# Altium footprint library LED_FOOTPRINTS.PcbLib: 38 footprints (part 1 of 3)
Each footprint in its own frame and in the unit in brackets; x right, y up, seen from the top. Pads: shape width x height; smd on the part's side, far side on the other; paste and mask are expansions set on the pad; w line width, h text height; cw(c..) or ccw(c..) is an arc to the next point about the centre after c.
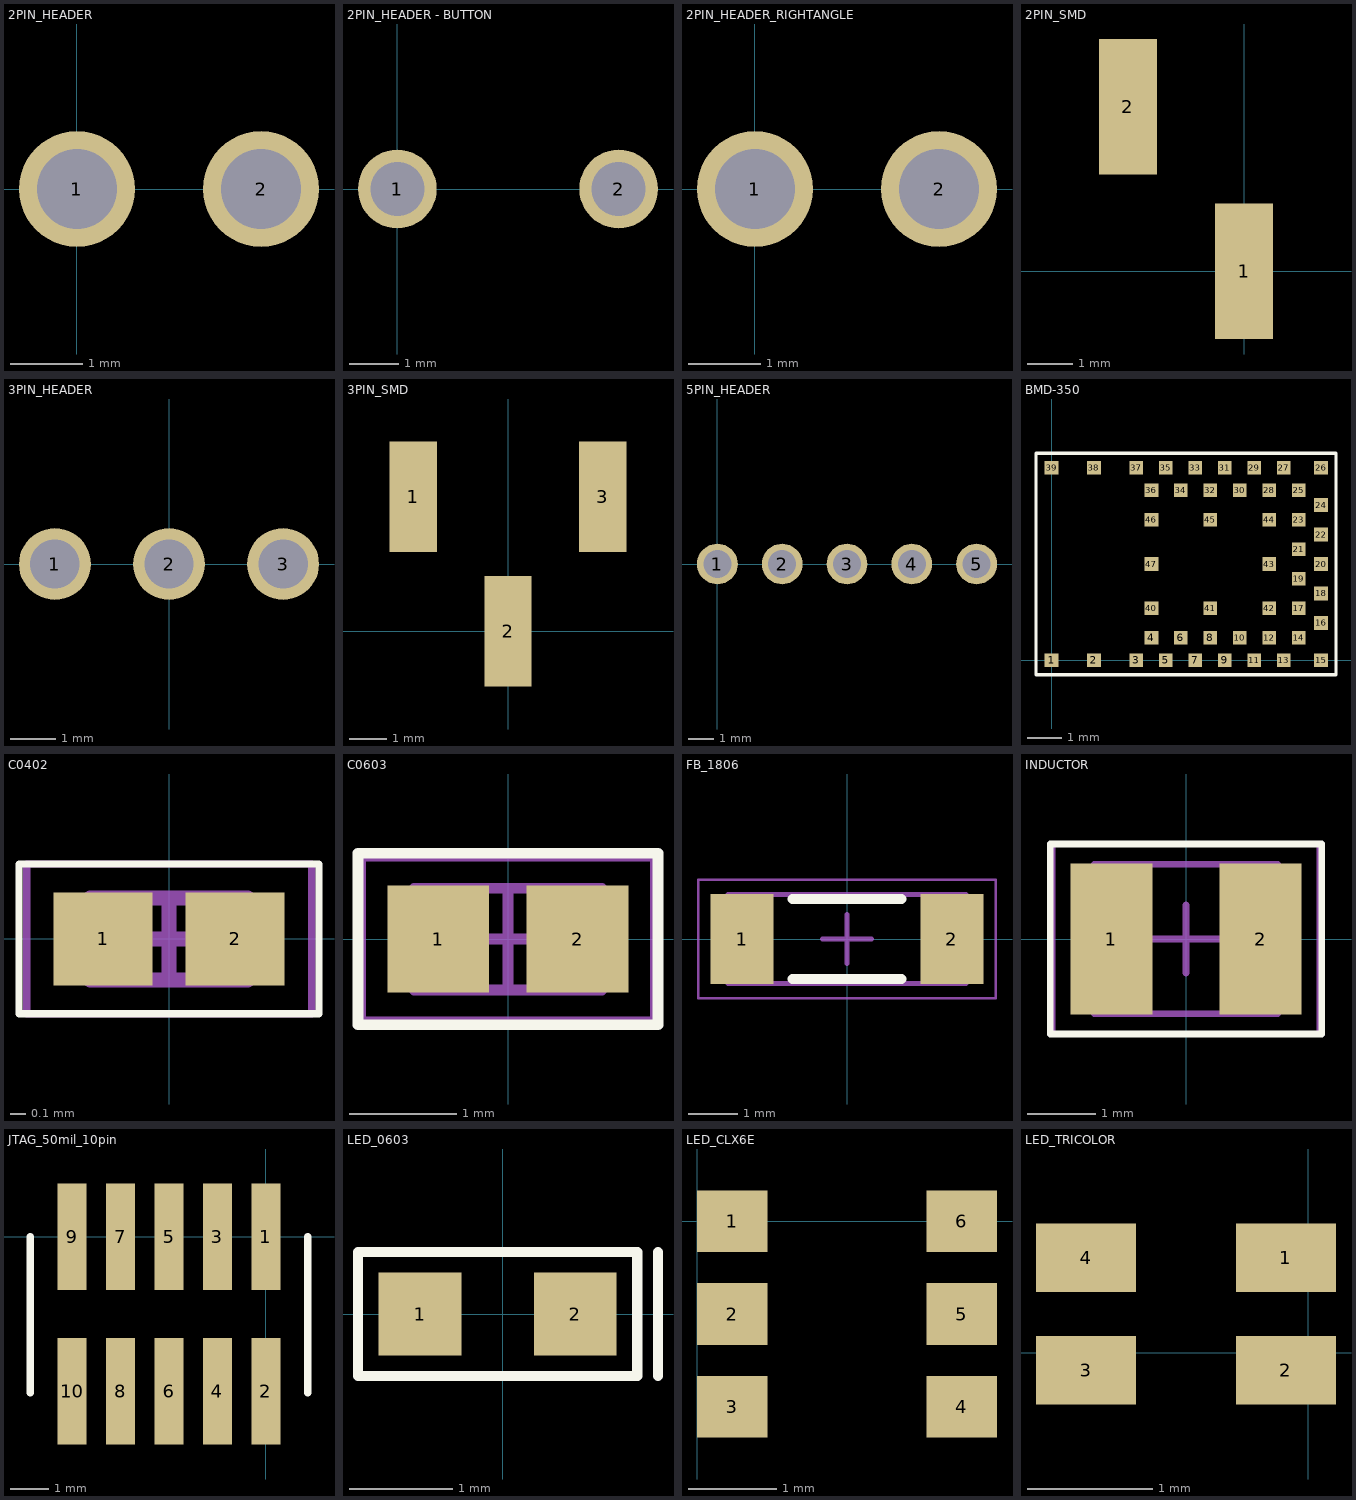
[diagram p0: the footprints below, top view; thin cyan lines are the x and y axes]

## 2PIN_HEADER [mm]
pads (2):
  round 1.6 hole 1.1: 1(0,0) 2(2.54,0)
3D body "Pin Header 1x2 TH Pitch 2.54mm.stp": height 9.5, standoff -3.2, extent -1.27,-1.27 3.81,1.27

## 2PIN_HEADER - BUTTON [mm]
pads (2):
  round 1.6 hole 1.1: 1(0,0) 2(4.5,0)

## 2PIN_HEADER_RIGHTANGLE [mm]
pads (2):
  round 1.6 hole 1.1: 1(0,0) 2(2.54,0)
3D body "1 Pin 2.54 mm Right Angle Single Row Pin Header Male 90 degrees Needle Connector.step": height 4.3, standoff -3, extent -1.27,-1.27 1.27,7.18
3D body "1 Pin 2.54 mm Right Angle Single Row Pin Header Male 90 degrees Needle Connector.step": height 4.3, standoff -3, extent 1.27,-1.27 3.81,7.18

## 2PIN_SMD [mm]
pads (2):
  rect 1.27x2.96 smd: 1(0,0) 2(-2.54,3.6)
3D body "Header - SMD - Vertical - 2.stp": height 9.7, standoff 0, extent -3.83,-0.802 1.25,4.202

## 3PIN_HEADER [mm]
pads (3):
  round 1.6 hole 1.1: 1(-2.54,0) 2(0,0) 3(2.54,0)
3D body "Pin Header 1x3 TH Pitch 2.54mm.stp": height 9.5, standoff -3.2, extent -3.81,-1.27 3.81,1.27

## 3PIN_SMD [mm]
pads (3):
  rect 1.27x2.96 smd: 1(-2.54,3.6) 2(0,0) 3(2.54,3.6)
3D body "Header - SMD - Vertical - 3.stp": height 9.7, standoff 0, extent -3.81,-0.704 3.81,4.3

## 5PIN_HEADER [mm]
pads (5):
  round 1.6 hole 1.1: 1(0,0) 2(2.54,0) 3(5.08,0) 4(7.62,0) 5(10.16,0)
3D body "Pin Header 1x3 TH Pitch 2.54mm.stp": height 9.5, standoff -3.2, extent 3.81,-1.27 11.43,1.27
3D body "Pin Header 1x2 TH Pitch 2.54mm.stp": height 9.5, standoff -3.2, extent -1.27,-1.27 3.81,1.27

## BMD-350 [mm]
pads (47):
  rect 0.4x0.4 smd: 1(0,0) 2(1.22,0) 3(2.44,0) 4(2.873,0.65) 5(3.29,0) 6(3.723,0.65) 7(4.14,0) 8(4.573,0.65) 9(4.99,0) 10(5.423,0.65) 11(5.84,0) 12(6.273,0.65) 13(6.69,0) 14(7.123,0.65) 15(7.77,0) 16(7.77,1.075) 17(7.123,1.5) 18(7.77,1.925) 19(7.123,2.35) 20(7.77,2.775) 21(7.123,3.2) 22(7.77,3.625) 23(7.123,4.05) 24(7.77,4.475) 25(7.123,4.9) 26(7.77,5.55) 27(6.69,5.55) 28(6.273,4.9) 29(5.84,5.55) 30(5.423,4.9) 31(4.99,5.55) 32(4.573,4.9) 33(4.14,5.55) 34(3.723,4.9) 35(3.29,5.55) 36(2.873,4.9) 37(2.44,5.55) 38(1.22,5.55) 39(0,5.55) 40(2.873,1.5) 41(4.573,1.5) 42(6.273,1.5) 43(6.273,2.775) 44(6.273,4.05) 45(4.573,4.05) 46(2.873,4.05) 47(2.873,2.775)
Top Overlay:
  lines w0.1: -0.452,-0.425 -0.452,5.975 8.198,5.975 8.198,-0.425 -0.452,-0.425
3D body "BMD-350-STEP-Library.STEP": height 1.49, standoff 0.04, extent -0.5,-0.4 8.15,6

## C0402 [mm] "Chip Capacitor, 2-Leads, Body 1.00x0.50mm, IPC Medium Density"
height 0.55
pads (2):
  rect 0.66x0.62 smd: 1(-0.44,0) 2(0.44,0)
Top Overlay:
  lines w0.05: -1,-0.5 -1,0.5 1,0.5 1,-0.5 -1,-0.5
Mechanical 13:
  lines w0.1: -0.525,-0.275 0.525,-0.275 0.525,0.275 -0.525,0.275 -0.525,-0.275
Mechanical 15:
  lines w0.05: -0.95,-0.5 0.95,-0.5 0.95,0.5 -0.95,0.5 -0.95,-0.5
  lines w0.1: -0.275,0 0.275,0 ; 0,-0.275 0,0.275
3D body "CAPC1005X06N.step": height 0.55, standoff 0, extent -0.525,-0.275 0.525,0.275

## C0603 [mm] "Chip Capacitor, 2-Leads, Body 1.60x0.80mm, IPC Medium Density"
height 0.95
pads (2):
  rect 0.95x1 smd: 1(-0.65,0) 2(0.65,0)
Top Overlay:
  lines w0.1: -1.4,-0.8 -1.4,0.8 1.4,0.8 1.4,-0.8 -1.4,-0.8
Mechanical 13:
  lines w0.1: -0.875,-0.475 0.875,-0.475 0.875,0.475 -0.875,0.475 -0.875,-0.475
Mechanical 15:
  lines w0.05: -1.35,-0.75 1.35,-0.75 1.35,0.75 -1.35,0.75 -1.35,-0.75
  lines w0.1: -0.475,0 0.475,0 ; 0,-0.475 0,0.475
3D body "CAPC1608X09N.step": height 0.95, standoff 0, extent -0.875,-0.475 0.875,0.475

## FB_1806 [mm] "Chip Inductor, 2-Leads, Body 4.50x1.60mm, IPC Medium Density"
height 1.3
pads (2):
  rect 1.27x1.82 smd: 1(-2.12,0) 2(2.12,0)
Top Overlay:
  lines w0.2: -1.1,-0.81 1.1,-0.81 ; -1.1,0.81 1.1,0.81
Mechanical 13:
  lines w0.1: -2.4,-0.9 -2.4,0.9 2.4,0.9 2.4,-0.9 -2.4,-0.9
Mechanical 15:
  lines w0.05: -3,-1.2 -3,1.2 3,1.2 3,-1.2 -3,-1.2
  lines w0.1: -0.5,0 0.5,0 ; 0,-0.5 0,0.5
3D body "INDC4516X13N.step": height 1.3, standoff 0, extent -2.4,-0.9 2.4,0.9

## INDUCTOR [mm] "Chip Inductor, 2-Leads, Body 2.50x2.00mm, IPC Medium Density"
height 0.8
pads (2):
  rect 1.21x2.22 smd: 1(-1.1,0) 2(1.1,0)
Top Overlay:
  lines w0.1: -2,-1.4 -2,1.4 2,1.4 2,-1.4 -2,-1.4
Mechanical 13:
  lines w0.1: -1.35,-1.1 -1.35,1.1 1.35,1.1 1.35,-1.1 -1.35,-1.1
Mechanical 15:
  lines w0.05: -1.95,-1.4 -1.95,1.4 1.95,1.4 1.95,-1.4 -1.95,-1.4
  lines w0.1: -0.5,0 0.5,0 ; 0,-0.5 0,0.5
3D body "INDC2520X08N.step": height 0.8, standoff 0, extent -1.35,-1.1 1.35,1.1

## JTAG_50mil_10pin [mil]
pads (10):
  rect 30x110 smd: 1(0,0) 2(0,-159.84) 3(-50,0) 4(-50,-159.84) 5(-100,0) 6(-100,-159.84) 7(-150,0) 8(-150,-159.84) 9(-200,0) 10(-200,-159.84)
Top Overlay:
  lines w7.87: -243.31,-161.42 -243.31,0 ; 43.31,-161.42 43.31,0
3D body "FTSH-105-01-L-DV-K-TR.stp": height 240.75, standoff -0.25, extent -223.42,-193.74 26.57,36.26

## LED_0603 [mm]
pads (2):
  rect 0.8x0.8 smd: 1(-0.8,0) 2(0.7,0)
Top Overlay:
  lines w0.1: 1.5,-0.6 1.5,0.6 ; -1.4,-0.6 -1.4,0.6 1.3,0.6 1.3,-0.6 -1.4,-0.6

## LED_CLX6E [mm]
pads (6):
  rect 0.8x0.7 smd: 1(0.4,0) 2(0.4,-1.05) 3(0.4,-2.1) 4(3,-2.1) 5(3,-1.05) 6(3,0)
3D body "Cree_PLCC6.stp": height 2.8, standoff 0, extent -0.05,-2.73 3.45,0.67

## LED_TRICOLOR [mm]
pads (4):
  rect 0.8x0.55 smd: 1(-0.178,0.762) 2(-0.178,-0.138) 3(-1.778,-0.138) 4(-1.778,0.762)